# EAGLE library part JACK_NRJ6HF (library wheat)
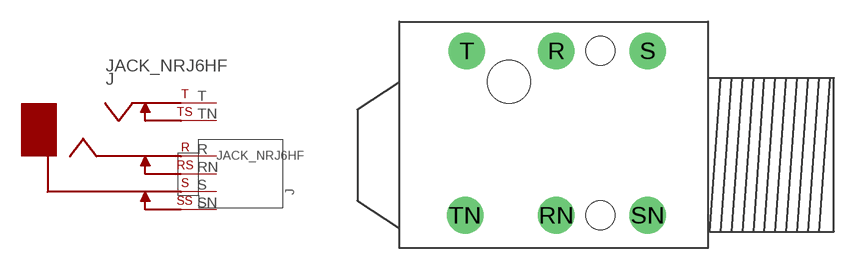
[diagram p150: symbol with the pads of JACK_NRJ6HF; footprint JACK_NRJ6HF]

Designator prefix J

## JACK_NRJ6HF  [JACK_NRJ6HF]
R  2  pas
RN  5  pas
S  3  pas
SN  6  pas
T  1  pas
TN  4  pas

## Footprint JACK_NRJ6HF (pad centres in mm)
drill 1.676 pad 2.54: R -10.541,7.239; RN -10.541,-4.191; S -4.191,7.239; SN -4.191,-4.191; T -16.764,7.239; TN -16.891,-4.191
hole 2.007 at -7.493,-4.191
hole 2.007 at -7.493,7.239
hole 2.997 at -13.843,5.08